# Altium footprint library LMZ14202H.PcbLib: 3 footprints
Each footprint in its own frame and in the unit in brackets; x right, y up, seen from the top. Pads: shape width x height; smd on the part's side, far side on the other; paste and mask are expansions set on the pad; w line width, h text height; cw(c..) or ccw(c..) is an arc to the next point about the centre after c.
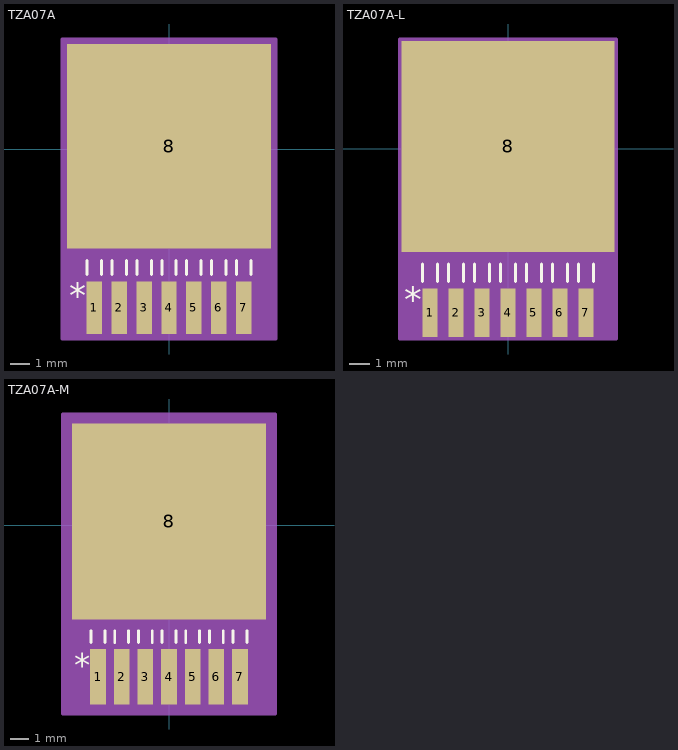
[diagram p0: the footprints below, top view; thin cyan lines are the x and y axes]

## TZA07A [mil]
pads (8):
  rect 31x105 smd: 1(-150,-318.5) 2(-100,-318.5) 3(-50,-318.5) 4(0,-318.5) 5(50,-318.5) 6(100,-318.5) 7(150,-318.5)
  rect 410x410 smd: 8(0,6)
Top Overlay:
  lines w6: -164.5,-252 -164.5,-223 ; -135.5,-252 -135.5,-223 ; -114.5,-252 -114.5,-223 ; -85.5,-252 -85.5,-223 ; -64.5,-252 -64.5,-223 ; -35.5,-252 -35.5,-223 ; -14.5,-252 -14.5,-223 ; 14.5,-252 14.5,-223 ; 35.5,-252 35.5,-223 ; 64.5,-252 64.5,-223 ; 85.5,-252 85.5,-223 ; 114.5,-252 114.5,-223 ; 135.5,-252 135.5,-223 ; 164.5,-252 164.5,-223
  text "*" at -200,-318.5 h50
  text "PN" at 0,0 h50
  text "DEV" at 0,0 h50
  text "VAL" at 0,0 h50
  text "TOL" at 0,0 h50
Mechanical 13:
  text "*" at -200,-318.5 h50
  text "RefDes2" at 0,0 h50
Mechanical 15:
  region: 215,-381 -215,-381 -215,221 215,221
  lines w6: -215,-381 -215,221 215,221 215,-381 -215,-381
3D body "TZA07A.stp": height 184.1, standoff -2, extent -205,-272 205,199.1

## TZA07A-L [mil]
pads (8):
  rect 29x93 smd: 1(-150,-316.5) 2(-100,-316.5) 3(-50,-316.5) 4(0,-316.5) 5(50,-316.5) 6(100,-316.5) 7(150,-316.5)
  rect 410x406 smd: 8(0,4)
Top Overlay:
  lines w6: -164.5,-256 -164.5,-223 ; -135.5,-256 -135.5,-223 ; -114.5,-256 -114.5,-223 ; -85.5,-256 -85.5,-223 ; -64.5,-256 -64.5,-223 ; -35.5,-256 -35.5,-223 ; -14.5,-256 -14.5,-223 ; 14.5,-256 14.5,-223 ; 35.5,-256 35.5,-223 ; 64.5,-256 64.5,-223 ; 85.5,-256 85.5,-223 ; 114.5,-256 114.5,-223 ; 135.5,-256 135.5,-223 ; 164.5,-256 164.5,-223
  text "*" at -200,-316.5 h50
  text "PN" at 0,0 h50
  text "DEV" at 0,0 h50
  text "VAL" at 0,0 h50
  text "TOL" at 0,0 h50
Mechanical 13:
  text "*" at -200,-316.5 h50
  text "RefDes2" at 0,0 h50
Mechanical 15:
  region: 209,-367 -209,-367 -209,211 209,211
  lines w6: -209,-367 -209,211 209,211 209,-367 -209,-367
3D body "TZA07A-L.stp": height 184.1, standoff -2, extent -205,-272 205,199.1

## TZA07A-M [mil]
pads (8):
  rect 33x117 smd: 1(-150,-320.5) 2(-100,-320.5) 3(-50,-320.5) 4(0,-320.5) 5(50,-320.5) 6(100,-320.5) 7(150,-320.5)
  rect 410x414 smd: 8(0,8)
Top Overlay:
  lines w6: -164.5,-248 -164.5,-223 ; -135.5,-248 -135.5,-223 ; -114.5,-248 -114.5,-223 ; -85.5,-248 -85.5,-223 ; -64.5,-248 -64.5,-223 ; -35.5,-248 -35.5,-223 ; -14.5,-248 -14.5,-223 ; 14.5,-248 14.5,-223 ; 35.5,-248 35.5,-223 ; 64.5,-248 64.5,-223 ; 85.5,-248 85.5,-223 ; 114.5,-248 114.5,-223 ; 135.5,-248 135.5,-223 ; 164.5,-248 164.5,-223
  text "*" at -200,-320.5 h50
  text "PN" at 0,0 h50
  text "DEV" at 0,0 h50
  text "VAL" at 0,0 h50
  text "TOL" at 0,0 h50
Mechanical 13:
  text "*" at -200,-320.5 h50
  text "RefDes2" at 0,0 h50
Mechanical 15:
  region: 225,-399 -225,-399 -225,235 225,235
  lines w6: -225,-399 -225,235 225,235 225,-399 -225,-399
3D body "TZA07A-M.stp": height 184.1, standoff -2, extent -205,-272 205,199.1